# Altium footprint library V2PSU_MONOFASICA_VIPER_ED01R1.PcbLib: 15 footprints
Each footprint in its own frame and in the unit in brackets; x right, y up, seen from the top. Pads: shape width x height; smd on the part's side, far side on the other; paste and mask are expansions set on the pad; w line width, h text height; cw(c..) or ccw(c..) is an arc to the next point about the centre after c.
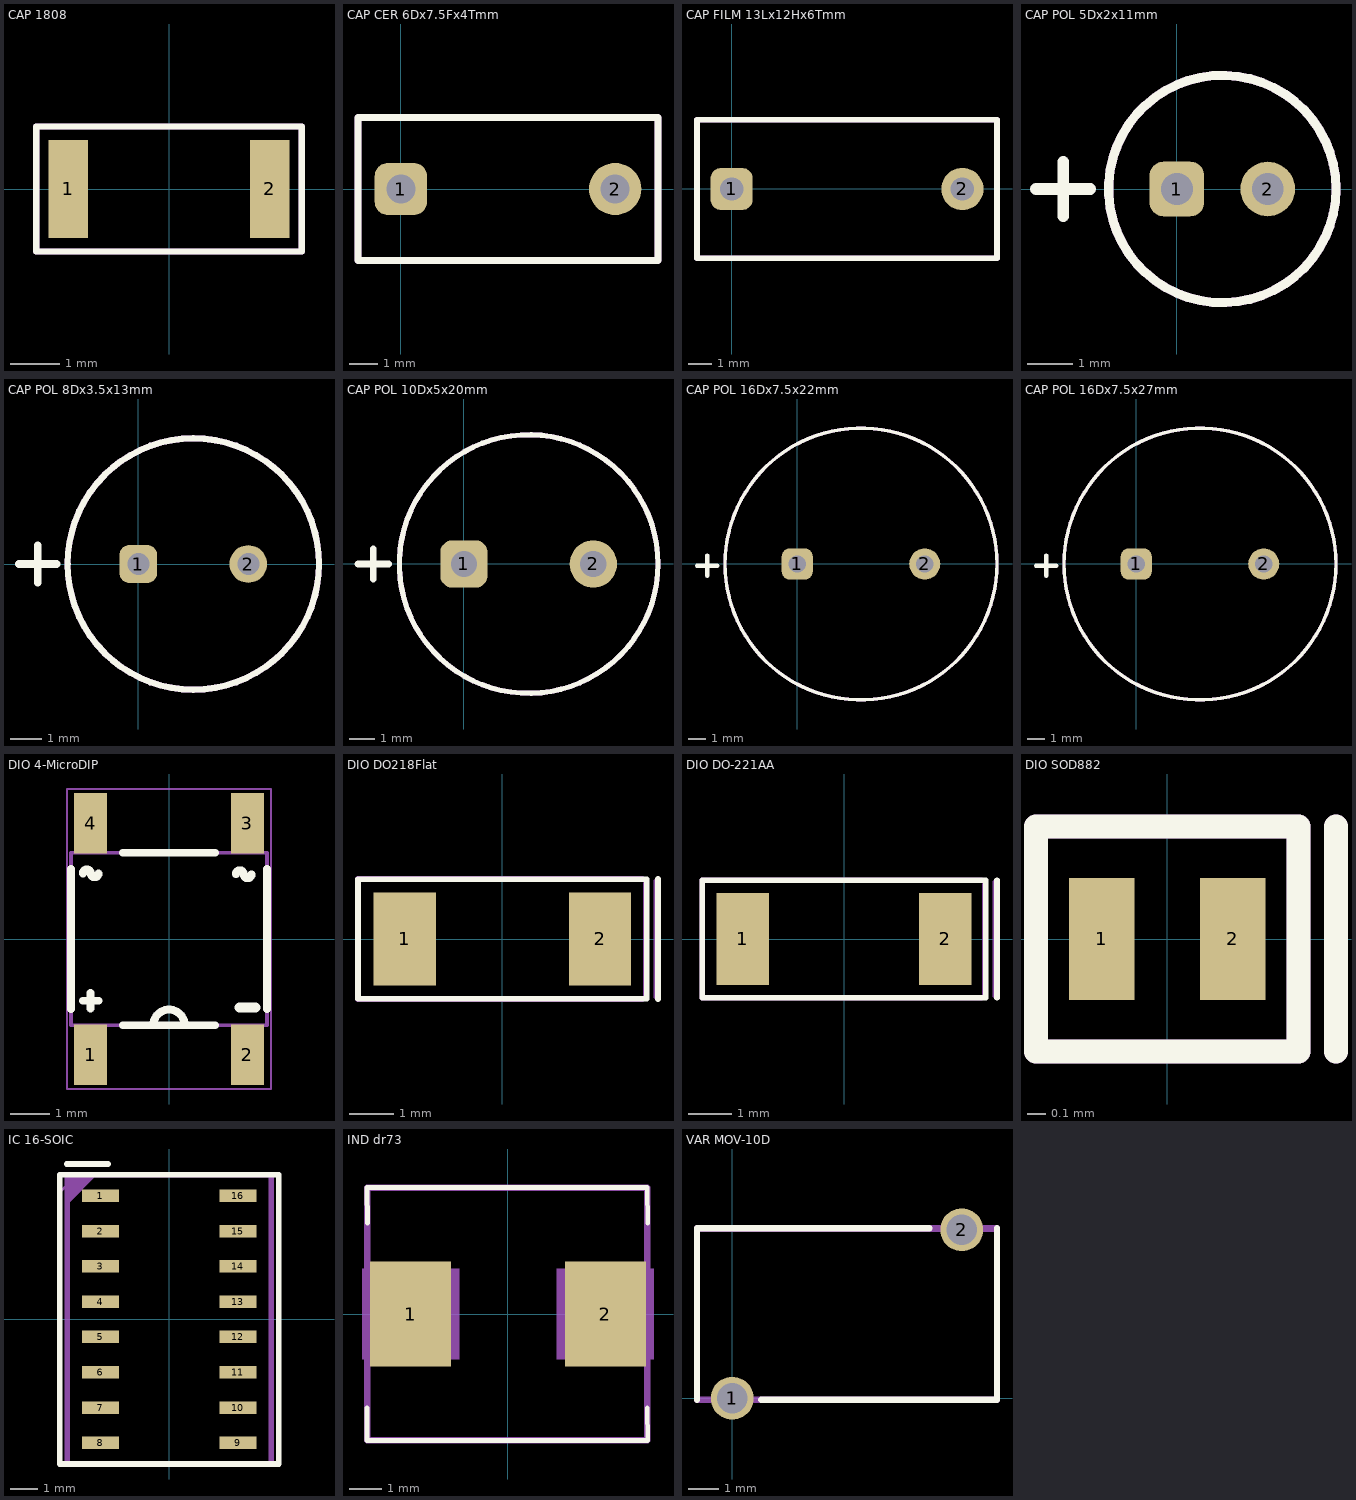
[diagram p0: the footprints below, top view; thin cyan lines are the x and y axes]

## CAP 1808 [mm] "CAPACITOR 1808"
height 1
pads (2):
  rect 0.8x2 smd mask+0.1: 1(-2.05,0) 2(2.05,0)
Top Overlay:
  lines w0.127: -2.7,-1.27 2.7,-1.27 2.7,1.27 -2.7,1.27 -2.7,-1.27
Top Assembly:
  lines w0.127: -2.7,-1.27 2.7,-1.27 2.7,1.27 -2.7,1.27 -2.7,-1.27
  text "'.Designator'" at -2.311,-0.356 h1.27
3D body: height 2.16, standoff 0, extent -2.7,-1.27 2.7,1.27

## CAP CER 6Dx7.5Fx4Tmm [mil]
height 236.22
pads (2):
  rrect50% 72x72 hole 40: 1(0,0)
  round 72 hole 40: 2(295.28,0)
Top Overlay:
  lines w10: -59.06,-98.43 354.33,-98.43 354.33,98.43 -59.06,98.43 -59.06,-98.43
Top Assembly:
  lines w10: -59.06,-98.43 -59.06,98.43 354.33,98.43 354.33,-98.43 -59.06,-98.43
  text "'.Designator'" at 51.18,-7.87 h39.37
3D body: height 50, standoff 0, extent 0.82,-98.43 0.82,-98.43
3D body: height 177.17, standoff -59.06, extent 29.53,-78.74 265.75,78.74

## CAP FILM 13Lx12Hx6Tmm [mil]
pads (2):
  rrect50% 72x72 hole 40: 1(0,0)
  round 72 hole 40: 2(393.7,0)
Top Overlay:
  lines w10: -59.06,-118.11 -59.06,118.11 452.76,118.11 452.76,-118.11 -59.06,-118.11
Top Assembly:
  lines w10: -59.06,-118.11 -59.06,118.11 452.76,118.11 452.76,-118.11 -59.06,-118.11
  text "'.Designator'" at 98.43,0 h39.37
3D body: height 472.44, standoff 0, extent -59.06,-118.11 452.76,118.11

## CAP POL 5Dx2x11mm [mm]
pads (2):
  rrect50% 1.2x1.2 hole 0.7: 1(0,0)
  round 1.2 hole 0.7: 2(2,0)
Top Overlay:
  circle w0.2: c1,0 r2.5
  lines w0.254: -3.097,0 -1.903,0 ; -2.5,-0.597 -2.5,0.597
Top Assembly:
  circle w0.2: c1,0 r2.5
  text "+++" at -0.7,-0.8 h1
  text "'.Designator'" at -1.319,0.935 h1
3D body: height 11, standoff 0, extent -1.5,-2.497 3.5,2.497

## CAP POL 8Dx3.5x13mm [mm]
pads (2):
  rrect50% 1.2x1.2 hole 0.7: 1(0,0)
  round 1.2 hole 0.7: 2(3.5,0)
Top Overlay:
  circle w0.2: c1.75,0 r4
  lines w0.254: -3.797,0 -2.603,0 ; -3.2,-0.597 -3.2,0.597
Top Assembly:
  circle w0.2: c1.75,0 r4
  text "'.Designator'" at -1.319,0.935 h1
  text "+++" at -0.7,-0.8 h1
3D body: height 13, standoff 0, extent -2.25,-3.997 5.75,3.997

## CAP POL 10Dx5x20mm [mil]
pads (2):
  rrect50% 72x72 hole 40: 1(0,0)
  round 72 hole 40: 2(196.85,0)
Top Overlay:
  circle w7.87: c98.43,0 r196.85
  lines w10: -161.3,0 -114.3,0 ; -137.8,-23.5 -137.8,23.5
Top Assembly:
  circle w7.87: c98.43,0 r196.85
  text "'.Designator'" at 0,62.99 h39.37
  text "+++" at -51.18,-31.5 h39.37
3D body: height 787.4, standoff 0, extent -98.42,-196.85 295.28,196.85

## CAP POL 16Dx7.5x22mm [mil]
pads (2):
  rrect50% 72x72 hole 40: 1(0,0)
  round 72 hole 40: 2(295.28,0)
Top Overlay:
  circle w7.87: c147.64,0 r314.96
  lines w10: -232.16,-3.94 -185.16,-3.94 ; -208.66,-27.44 -208.66,19.56
Top Assembly:
  circle w7.87: c147.64,0 r314.96
  text "'.Designator'" at 59.06,62.99 h39.37
  text "+++" at -51.18,-31.5 h39.37
3D body: height 866.14, standoff 0, extent -167.32,-314.96 462.6,314.96

## CAP POL 16Dx7.5x27mm [mil]
pads (2):
  rrect50% 72x72 hole 40: 1(0,0)
  round 72 hole 40: 2(295.28,0)
Top Overlay:
  circle w7.87: c147.64,0 r314.96
  lines w10: -232.16,-3.94 -185.16,-3.94 ; -208.66,-27.44 -208.66,19.56
Top Assembly:
  circle w7.87: c147.64,0 r314.96
  text "'.Designator'" at 59.06,62.99 h39.37
  text "+++" at -51.18,-31.5 h39.37
3D body: height 1062.99, standoff 0, extent -167.32,-314.96 462.6,314.96

## DIO 4-MicroDIP [mm]
pads (4):
  rect 0.85x1.55 smd: 1(-2,-2.95) 2(2,-2.95) 3(2,2.95) 4(-2,2.95)
Top Overlay:
  lines w0.2: -2.5,-1.782 -2.5,1.782 ; -2.2,-1.575 -1.8,-1.575 ; -2.195,1.675 cw(c-2.095,1.675) -1.996,1.675 ccw(c-1.896,1.675) -1.796,1.675 ; -2,-1.775 -2,-1.375 ; -1.175,-2.2 1.175,-2.2 ; -1.175,2.2 1.175,2.2 ; -0.4,-2.2 cw(c0,-2.2) 0.4,-2.2 ; 1.705,1.651 cw(c1.805,1.651) 1.905,1.651 ccw(c2.005,1.651) 2.105,1.651 ; 2.5,-1.782 2.5,1.782
  lines w0.254: 1.8,-1.748 2.2,-1.748
Mechanical 13:
  lines w0.1: -2.5,-2.2 2.5,-2.2 2.5,2.2 -2.5,2.2 -2.5,-2.2
Top Assembly:
  lines w0.05: -2.6,-3.825 2.6,-3.825 2.6,3.825 -2.6,3.825 -2.6,-3.825
  text "'.Designator'" at -1.524,-0.254 h1
3D body: height 1.6, standoff 0.05, extent -2.5,-2.2 2.5,2.2

## DIO DO218Flat [mm]
pads (2):
  rect 1.4x2.1 smd mask+0.1: 1(-2.2,0) 2(2.2,0)
Top Overlay:
  lines w0.127: 3.505,-1.35 3.505,1.35 ; -3.251,-1.344 3.252,-1.35 3.252,1.343 3.252,1.348 -3.251,1.348 -3.251,-1.344
Top Assembly:
  lines w0.127: -3.251,-1.35 3.15,-1.35 ; -3.251,-1.348 -3.251,1.348 ; -3.251,1.35 3.15,1.35 ; 3.226,-1.295 3.226,1.249 ; 3.47,-1.3 3.47,1.3
  text "'.Designator'" at -3.023,-0.356 h1.27
3D body: height 6, standoff 1, extent -2.2,-0.85 -2.2,-0.85
3D body "DO214AC_SMA.STEP": height 2.3, standoff 0.01, extent -2.743,-1.397 2.743,1.397

## DIO DO-221AA [mm]
pads (2):
  rect 1.2x2.1 smd mask+0.1: 1(-2.32,0) 2(2.32,0)
Top Overlay:
  lines w0.127: 3.505,-1.35 3.505,1.35 ; -3.251,-1.344 3.252,-1.35 3.252,1.343 3.252,1.348 -3.251,1.348 -3.251,-1.344
Top Assembly:
  lines w0.127: -3.251,-1.35 3.15,-1.35 ; -3.251,-1.348 -3.251,1.348 ; -3.251,1.35 3.15,1.35 ; 3.226,-1.295 3.226,1.249 ; 3.47,-1.3 3.47,1.3
  text "'.Designator'" at -3.023,-0.356 h1.27
3D body: height 6, standoff 1, extent -2.2,-0.85 -2.2,-0.85
3D body "DO214AC_SMA.STEP": height 2.3, standoff 0.01, extent -2.743,-1.397 2.743,1.397

## DIO SOD882 [mm]
height 1
pads (2):
  rect 0.35x0.65 smd mask+0.05: 1(-0.35,0) 2(0.35,0)
Top Overlay:
  lines w0.127: 0.9,-0.6 0.9,0.6 ; -0.7,-0.599 0.699,-0.599 0.7,0.6 0.699,0.6 -0.7,0.6 -0.7,-0.6
Top Assembly:
  lines w0.127: 0.9,-0.6 0.9,0.6 ; -0.7,-0.6 0.7,-0.6 0.7,0.6 -0.7,0.6 -0.7,-0.6
  text "'.Designator'" at -3.023,-0.356 h1.27
3D body: height 6, standoff 1, extent -2.2,-0.85 -2.2,-0.85
3D body: height 0.4, standoff 0, extent -0.7,-0.6 0.7,0.6

## IC 16-SOIC [mm]
pads (16):
  rect 1.32x0.45 smd mask+0: 1(-2.475,4.445) 2(-2.475,3.175) 3(-2.475,1.905) 4(-2.475,0.635) 5(-2.475,-0.635) 6(-2.475,-1.905) 7(-2.475,-3.175) 8(-2.475,-4.445) 9(2.475,-4.445) 10(2.475,-3.175) 11(2.475,-1.905) 12(2.475,-0.635) 13(2.475,0.635) 14(2.475,1.905) 15(2.475,3.175) 16(2.475,4.445)
Top Overlay:
  lines w0.2: -3.683,5.588 -2.203,5.588 ; -3.937,-5.207 -3.937,5.207 3.937,5.207 3.937,-5.207 -3.937,-5.207
Mechanical 13:
  lines w0.1: -3.952,4.557 -3.302,5.207 ; -3.937,-5.207 -3.937,5.207 3.683,5.207 3.683,-5.207 -3.937,-5.207
Mechanical 15:
  lines w0.05: -3.925,-5.207 -3.925,5.207 3.925,5.207 3.925,-5.207 -3.925,-5.207
Top Assembly:
  region: -3.747,5.282 -3.747,4.058 -2.523,5.282
  lines w0.2: -3.675,-5.207 3.675,-5.207 3.675,5.207 -3.675,5.207 -3.675,-5.207
  text "'.Designator'" at -2.195,-0.136 h1
3D body: height 1.75, standoff 0, extent -3.937,-5.207 3.937,5.207

## IND dr73 [mm]
pads (2):
  rect 2.5x3.25 smd: 1(-3,0) 2(3,0)
Top Overlay:
  lines w0.15: -4.352,-2.9 -4.352,-3.9 4.308,-3.9 4.292,-2.9 ; -4.334,2.8 -4.352,3.9 4.293,3.9 4.311,2.8
Top Assembly:
  rectangle: 1.5,-1.4 4.5,1.4
  rectangle: -4.5,-1.4 -1.5,1.4
  lines w0.2: -4.347,-3.9 -4.347,3.9 4.3,3.9 4.3,-3.9 -4.347,-3.9
  text "'.Designator'" at -2.5,2.2 h1
3D body: height 3.55, standoff 0, extent -4.347,-3.9 4.3,3.9

## VAR MOV-10D [mm]
pads (2):
  round 1.4 hole 1: 1(0,0) 2(7.5,5.5)
Top Overlay:
  lines w0.2: -1.15,-0.05 -1.15,5.55 6.45,5.55 ; 0.95,-0.05 8.65,-0.05 8.65,5.55
Mechanical 13:
  lines w0.2: -1.15,-0.05 -1.15,5.55 8.65,5.55 8.65,-0.05 -1.15,-0.05
Top Assembly:
  lines w0.2: -1.15,-0.05 8.65,-0.05 8.65,5.525 -1.15,5.525 -1.15,-0.05
  text "'.Designator'" at 1.25,2.75 h1
3D body: height 15.5, standoff 0, extent -1.15,-0.05 8.65,5.525